# Altium footprint library Hello.PcbLib: 234 footprints (part 9 of 15)
Each footprint in its own frame and in the unit in brackets; x right, y up, seen from the top. Pads: shape width x height; smd on the part's side, far side on the other; paste and mask are expansions set on the pad; w line width, h text height; cw(c..) or ccw(c..) is an arc to the next point about the centre after c.
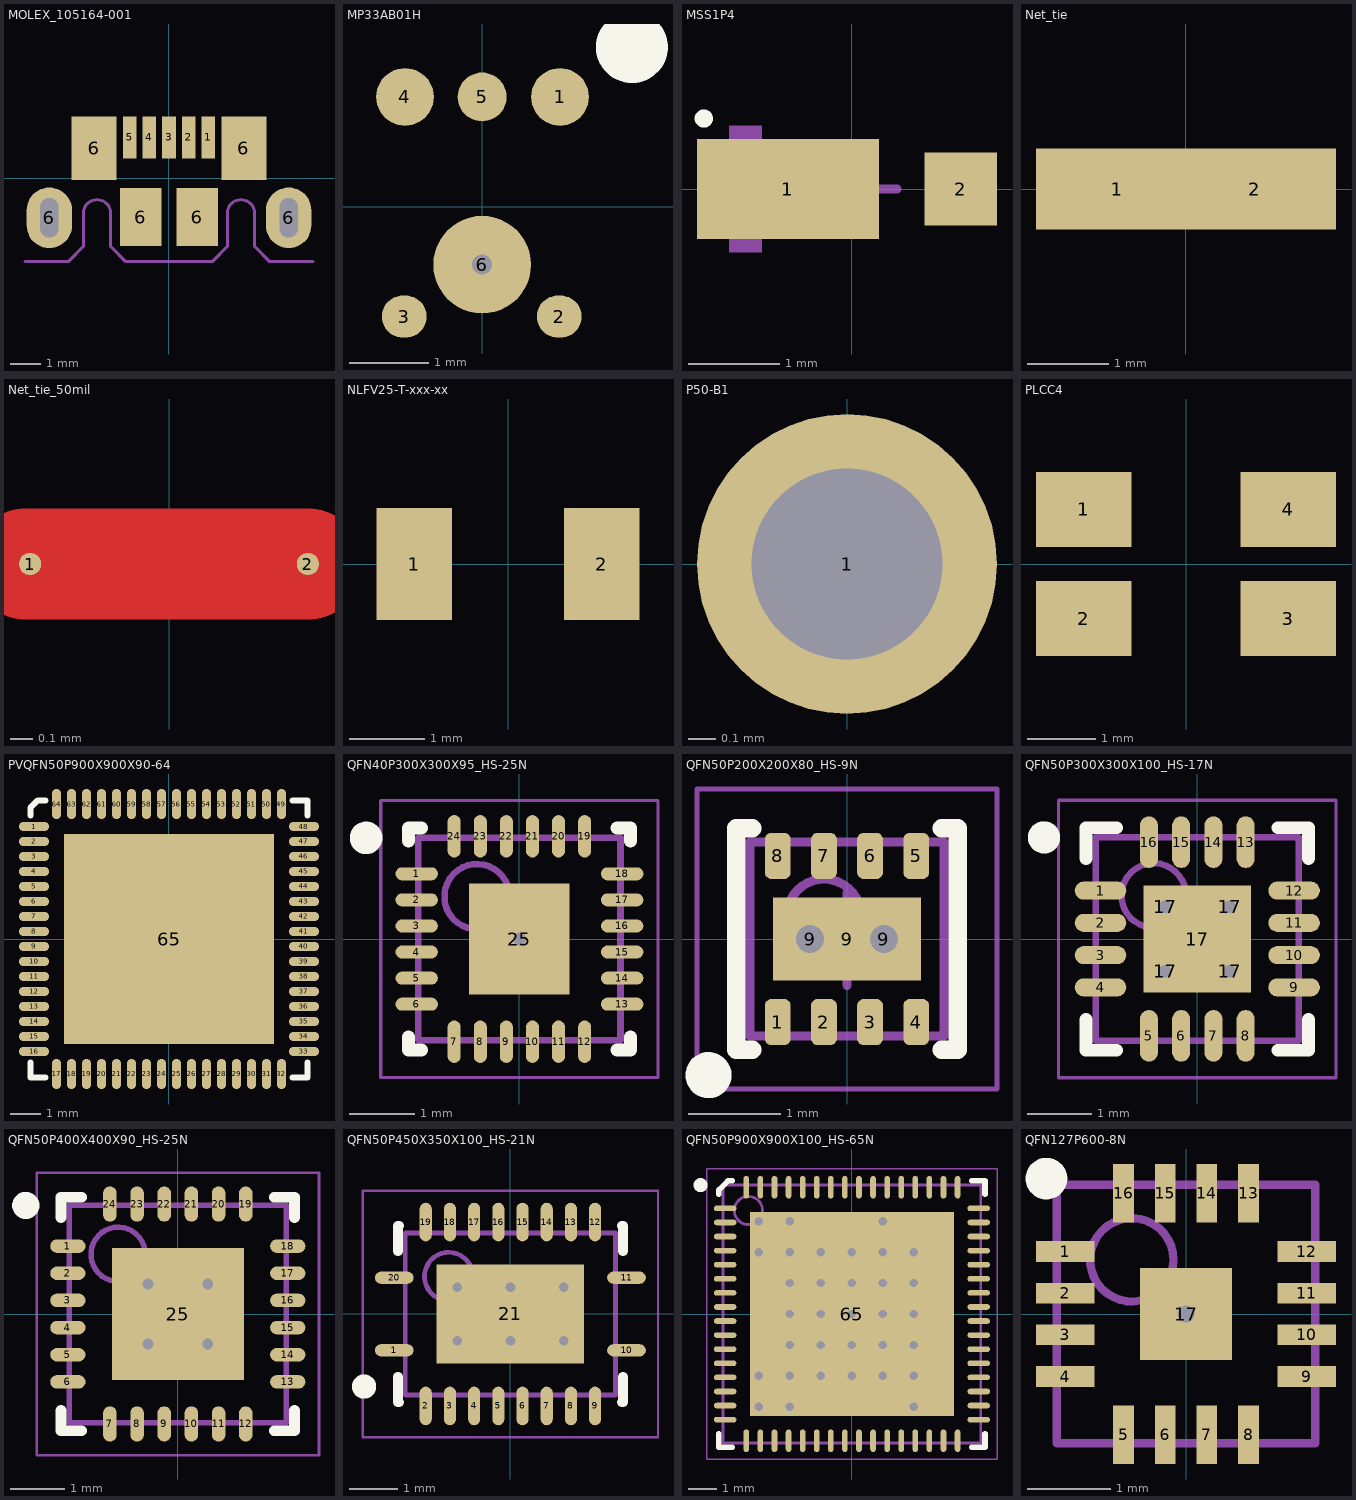
[diagram p8: the footprints below, top view; thin cyan lines are the x and y axes]

## MOLEX_105164-001 [mm] "Molex reverse flangless USB receptacle"
height 2.45
pads (11):
  rect 0.45x1.38 smd: 1(1.3,1.35) 2(0.65,1.35) 3(0,1.35) 4(-0.65,1.35) 5(-1.3,1.35)
  rrect100% 1.5x2 hole 0.6 slot 1.3 at 90 deg: 6(-3.95,-1.3) 6(3.95,-1.3)
  rect 1.475x2.1 smd: 6(-2.475,1) 6(2.475,1)
  rect 1.375x1.9 smd: 6(-0.937,-1.275) 6(0.938,-1.275)
Mechanical 1:
  lines w0.1: -4.75,-2.75 -3.325,-2.75 -2.825,-2.25 -2.825,-1.15 cw(c-2.375,-1.15) -2.375,-0.7 cw(c-2.375,-1.15) -1.925,-1.15 -1.925,-2.25 -1.425,-2.75 1.425,-2.75 1.925,-2.25 1.925,-1.15 cw(c2.375,-1.15) 2.375,-0.7 cw(c2.375,-1.15) 2.825,-1.15 2.825,-2.25 3.325,-2.75 4.75,-2.75
3D body: height 2.45, standoff -0.8, extent -4.1,-3.45 4.1,1.7

## MP33AB01H [mm] "ST analog micrphone"
pads (6):
  round 0.723 smd: 1(0.975,1.375) 4(-0.966,1.375)
  oval 0.562x0.526 smd: 2(0.966,-1.375) 3(-0.975,-1.375)
  round 0.612 smd: 5(0,1.375)
  round 1.224 smd: 6(0,-0.725)
via 0,-0.725 diameter 0.25 hole 0.25
Top Overlay:
  circle w0.7: c1.875,2 r0.1
3D body: height 1, standoff 0, extent -1.5,-1.9 1.5,1.9

## MSS1P4 [mm] "Schottky Diode"
height 0.73
pads (2):
  rect 2x1.1 smd: 1(-0.7,0)
  rect 0.8x0.8 smd: 2(1.2,0)
Top Overlay:
  circle w0.1: c-1.625,0.775 r0.05
Mechanical 13:
  rectangle: -1.35,-0.7 -0.987,0.7
Mechanical 15:
  lines w0.1: -0.5,0 0.5,0 ; 0,-0.5 0,0.5
3D body: height 0.73, standoff 0, extent -1.35,-0.7 1.35,0.7

## Net_tie [mm] "short circuit to tie 2 nets"
pads (2):
  rect 2x1 smd paste-1 mask+0.102: 1(-0.85,0) 2(0.85,0)

## Net_tie_50mil [mm] "Trace to bridge 2 hoels in a 50 mil pitch connector"
pads (2):
  round 0.1 smd paste-1 mask-1: 1(-0.625,0) 2(0.625,0)
Top Layer:
  lines w0.5: -0.645,0 0.625,0

## NLFV25-T-xxx-xx [mm] "TDK SMD shielded power inductor"
height 1.8
pads (2):
  rect 1x1.5 smd: 1(-1.25,0) 2(1.25,0)
3D body: height 1.8, standoff 0, extent -1.25,-1 1.25,1

## P50-B1 [mm] "P50-B1 Test Point 0.68x16.55mm 2.6mm stroke"
height 16.55
pads (1):
  round 1.1 hole 0.7: 1(0,0)
3D body: height 16.55, standoff 0, extent -0.337,-0.339 0.34,0.34

## PLCC4 [mm] "Gull-wing footprint for RGB LEDs like CLVBA-FKA"
height 1.9
pads (4):
  rect 1.4x1.1 smd: 1(-1.5,0.8) 2(-1.5,-0.8) 3(1.5,-0.8) 4(1.5,0.8)
3D body: height 1.9, standoff 0.25, extent -1.95,-1.15 1.95,1.2

## PVQFN50P900X900X90-64 [mm] "PVQFN, 64-Leads, Body 9.0x9.0mm (max), Pitch 0.50mm, IPC Low Density"
height 0.9
pads (65):
  oval 1x0.3 smd paste-0.05: 1(-4.5,3.75) 2(-4.5,3.25) 3(-4.5,2.75) 4(-4.5,2.25) 5(-4.5,1.75) 6(-4.5,1.25) 7(-4.5,0.75) 8(-4.5,0.25) 9(-4.5,-0.25) 10(-4.5,-0.75) 11(-4.5,-1.25) 12(-4.5,-1.75) 13(-4.5,-2.25) 14(-4.5,-2.75) 15(-4.5,-3.25) 16(-4.5,-3.75) 33(4.5,-3.75) 34(4.5,-3.25) 35(4.5,-2.75) 36(4.5,-2.25) 37(4.5,-1.75) 38(4.5,-1.25) 39(4.5,-0.75) 40(4.5,-0.25) 41(4.5,0.25) 42(4.5,0.75) 43(4.5,1.25) 44(4.5,1.75) 45(4.5,2.25) 46(4.5,2.75) 47(4.5,3.25) 48(4.5,3.75)
  oval 0.3x1 smd paste-0.05: 17(-3.75,-4.5) 18(-3.25,-4.5) 19(-2.75,-4.5) 20(-2.25,-4.5) 21(-1.75,-4.5) 22(-1.25,-4.5) 23(-0.75,-4.5) 24(-0.25,-4.5) 25(0.25,-4.5) 26(0.75,-4.5) 27(1.25,-4.5) 28(1.75,-4.5) 29(2.25,-4.5) 30(2.75,-4.5) 31(3.25,-4.5) 32(3.75,-4.5) 49(3.75,4.5) 50(3.25,4.5) 51(2.75,4.5) 52(2.25,4.5) 53(1.75,4.5) 54(1.25,4.5) 55(0.75,4.5) 56(0.25,4.5) 57(-0.25,4.5) 58(-0.75,4.5) 59(-1.25,4.5) 60(-1.75,4.5) 61(-2.25,4.5) 62(-2.75,4.5) 63(-3.25,4.5) 64(-3.75,4.5)
  rect 7x7 smd paste-5: 65(0,0)
Top Overlay:
  lines w0.2: -4.625,-4.125 -4.625,-4.625 -4.125,-4.625 ; -4.625,4.125 -4.625,4.375 -4.375,4.625 -4.125,4.625 ; 4.125,-4.625 4.625,-4.625 4.625,-4.125 ; 4.125,4.625 4.625,4.625 4.625,4.125
Top Paste:
  rectangle: -3,-3 -0.5,-0.5
  rectangle: 0.5,-3 3,-0.5
  rectangle: 0.5,0.5 3,3
  rectangle: -3,0.5 -0.5,3
3D body: height 0.9, standoff 0.05, extent -4.525,-4.525 4.525,4.525

## QFN40P300X300X95_HS-25N [mm] "QFN, 24-Leads, Body 3.00x3.00mm, Pitch 0.40mm, Thermal Pad 1.54x1.70mm, IPC Medium Density"
height 0.95
pads (25):
  oval 0.65x0.2 smd: 1(-1.575,1) 2(-1.575,0.6) 3(-1.575,0.2) 4(-1.575,-0.2) 5(-1.575,-0.6) 6(-1.575,-1) 13(1.575,-1) 14(1.575,-0.6) 15(1.575,-0.2) 16(1.575,0.2) 17(1.575,0.6) 18(1.575,1)
  oval 0.2x0.65 smd: 7(-1,-1.575) 8(-0.6,-1.575) 9(-0.2,-1.575) 10(0.2,-1.575) 11(0.6,-1.575) 12(1,-1.575) 19(1,1.575) 20(0.6,1.575) 21(0.2,1.575) 22(-0.2,1.575) 23(-0.6,1.575) 24(-1,1.575)
  rect 1.54x1.7 smd: 25(0,0)
via 0,0 diameter 0.5 hole 0.2
Top Overlay:
  circle w0.25: c-2.35,1.55 r0.125
  lines w0.2: -1.7,-1.5 -1.7,-1.7 -1.5,-1.7 ; -1.7,1.5 -1.7,1.7 -1.5,1.7 ; 1.5,-1.7 1.7,-1.7 1.7,-1.5 ; 1.5,1.7 1.7,1.7 1.7,1.5
Mechanical 13:
  circle w0.1: c-0.65,0.65 r0.5
  lines w0.1: -1.55,-1.55 1.55,-1.55 1.55,1.55 -1.55,1.55 -1.55,-1.55
Mechanical 15:
  lines w0.05: -2.125,-2.125 2.125,-2.125 2.125,2.125 -2.125,2.125 -2.125,-2.125
  lines w0.1: -0.5,0 0.5,0 ; 0,-0.5 0,0.5
3D body: height 0.95, standoff 0, extent -1.55,-1.55 1.55,1.55

## QFN50P200X200X80_HS-9N [mm] "QFN, 8-Leads, Body 2.00x2.00mm, Pitch 0.50mm, Thermal Pad 1.60x0.90mm, IPC Medium Density"
height 0.8
pads (11):
  rrect50% 0.28x0.5 smd: 1(-0.75,-0.9) 2(-0.25,-0.9) 3(0.25,-0.9) 4(0.75,-0.9) 5(0.75,0.9) 6(0.25,0.9) 7(-0.25,0.9) 8(-0.75,0.9)
  round 0.6 hole 0.3: 9(-0.4,0) 9(0.4,0)
  rect 1.6x0.9 smd: 9(0,0)
Top Overlay:
  circle w0.25: c-1.5,-1.475 r0.125
  lines w0.2: -1.025,-1.2 -1.2,-1.2 -1.2,1.2 -1.025,1.2 ; 1.025,-1.2 1.2,-1.2 1.2,1.2 1.025,1.2
Mechanical 13:
  circle w0.1: c-0.25,0.25 r0.4
  lines w0.1: -1.05,-1.05 -1.05,1.05 1.05,1.05 1.05,-1.05 -1.05,-1.05
Mechanical 15:
  lines w0.05: -1.625,-1.625 -1.625,1.625 1.625,1.625 1.625,-1.625 -1.625,-1.625
  lines w0.1: -0.5,0 0.5,0 ; 0,-0.5 0,0.5
3D body: height 0.8, standoff 0, extent -1.05,-1.05 1.05,1.05

## QFN50P300X300X100_HS-17N [mm] "QFN, 16-Leads, Body 3.00x3.00mm, Pitch 0.50mm, Thermal Pad 1.66x1.66mm, IPC Medium Density"
height 1
pads (21):
  oval 0.8x0.28 smd: 1(-1.5,0.75) 2(-1.5,0.25) 3(-1.5,-0.25) 4(-1.5,-0.75) 9(1.5,-0.75) 10(1.5,-0.25) 11(1.5,0.25) 12(1.5,0.75)
  oval 0.28x0.8 smd: 5(-0.75,-1.5) 6(-0.25,-1.5) 7(0.25,-1.5) 8(0.75,-1.5) 13(0.75,1.5) 14(0.25,1.5) 15(-0.25,1.5) 16(-0.75,1.5)
  round 0.5 hole 0.2: 17(-0.5,0.5) 17(-0.5,-0.5) 17(0.5,0.5) 17(0.5,-0.5)
  rect 1.66x1.66 smd paste-5: 17(0,0)
Top Overlay:
  circle w0.25: c-2.375,1.575 r0.125
  lines w0.2: -1.725,-1.25 -1.725,-1.725 -1.25,-1.725 ; -1.725,1.25 -1.725,1.725 -1.25,1.725 ; 1.25,-1.725 1.725,-1.725 1.725,-1.25 ; 1.25,1.725 1.725,1.725 1.725,1.25
Top Paste:
  region: 0.725,-0.725 0.725,-0.1 0.1,-0.1 0.1,-0.725
  region: 0.725,0.725 0.725,0.1 0.1,0.1 0.1,0.725
  region: -0.725,0.725 -0.725,0.1 -0.1,0.1 -0.1,0.725
  region: -0.725,-0.725 -0.725,-0.1 -0.1,-0.1 -0.1,-0.725
Mechanical 13:
  circle w0.1: c-0.675,0.675 r0.5
  lines w0.1: -1.575,-1.575 -1.575,1.575 1.575,1.575 1.575,-1.575 -1.575,-1.575
Mechanical 15:
  lines w0.05: -2.15,-2.15 -2.15,2.15 2.15,2.15 2.15,-2.15 -2.15,-2.15
  lines w0.1: -0.5,0 0.5,0 ; 0,-0.5 0,0.5
3D body: height 1, standoff 0, extent -1.575,-1.575 1.575,1.575

## QFN50P400X400X90_HS-25N [mm] "QFN, 24-Leads, Body 4.00x4.00mm, Pitch 0.50mm, Thermal Pad 2.43x2.43mm, IPC Medium Density"
height 0.9
pads (25):
  oval 0.65x0.25 smd: 1(-2.025,1.25) 2(-2.025,0.75) 3(-2.025,0.25) 4(-2.025,-0.25) 5(-2.025,-0.75) 6(-2.025,-1.25) 13(2.025,-1.25) 14(2.025,-0.75) 15(2.025,-0.25) 16(2.025,0.25) 17(2.025,0.75) 18(2.025,1.25)
  oval 0.25x0.65 smd: 7(-1.25,-2.025) 8(-0.75,-2.025) 9(-0.25,-2.025) 10(0.25,-2.025) 11(0.75,-2.025) 12(1.25,-2.025) 19(1.25,2.025) 20(0.75,2.025) 21(0.25,2.025) 22(-0.25,2.025) 23(-0.75,2.025) 24(-1.25,2.025)
  rect 2.43x2.43 smd: 25(0,0)
via -0.55,0.55 diameter 0.5 hole 0.2
via 0.55,0.55 diameter 0.5 hole 0.2
via -0.55,-0.55 diameter 0.5 hole 0.2
via 0.55,-0.55 diameter 0.5 hole 0.2
Top Overlay:
  circle w0.25: c-2.8,2 r0.125
  lines w0.2: -2.15,-1.775 -2.15,-2.15 -1.775,-2.15 ; -2.15,1.775 -2.15,2.15 -1.775,2.15 ; 1.775,-2.15 2.15,-2.15 2.15,-1.775 ; 1.775,2.15 2.15,2.15 2.15,1.775
Mechanical 13:
  circle w0.1: c-1.1,1.1 r0.5
  lines w0.1: -2,-2 -2,2 2,2 2,-2 -2,-2
Mechanical 15:
  lines w0.05: -2.6,-2.6 -2.6,2.6 2.6,2.6 2.6,-2.6 -2.6,-2.6
  lines w0.1: -0.5,0 0.5,0 ; 0,-0.5 0,0.5
3D body: height 0.9, standoff 0, extent -2,-2 2,2

## QFN50P450X350X100_HS-21N [mm] "QFN, 20-Leads, Body 4.50x3.50mm, Pitch 0.50mm/1.50mm, Thermal Pad 3.05x2.05mm, IPC Medium Density"
height 1
pads (21):
  oval 0.8x0.25 smd: 1(-2.4,-0.75) 10(2.4,-0.75) 11(2.4,0.75) 20(-2.4,0.75)
  oval 0.25x0.8 smd: 2(-1.75,-1.9) 3(-1.25,-1.9) 4(-0.75,-1.9) 5(-0.25,-1.9) 6(0.25,-1.9) 7(0.75,-1.9) 8(1.25,-1.9) 9(1.75,-1.9) 12(1.75,1.9) 13(1.25,1.9) 14(0.75,1.9) 15(0.25,1.9) 16(-0.25,1.9) 17(-0.75,1.9) 18(-1.25,1.9) 19(-1.75,1.9)
  rect 3.05x2.05 smd: 21(0,0)
via -1.1,-0.55 diameter 0.5 hole 0.2
via 1.1,-0.55 diameter 0.5 hole 0.2
via 1.1,0.55 diameter 0.5 hole 0.2
via 0,-0.55 diameter 0.5 hole 0.2
via 0,0.55 diameter 0.5 hole 0.2
via -1.1,0.55 diameter 0.5 hole 0.2
Top Overlay:
  circle w0.25: c-3.025,-1.5 r0.125
  lines w0.2: -2.325,-1.3 -2.325,-1.825 -2.3,-1.825 ; -2.325,1.3 -2.325,1.825 -2.3,1.825 ; 2.3,-1.825 2.325,-1.825 2.325,-1.3 ; 2.3,1.825 2.325,1.825 2.325,1.3
Mechanical 13:
  circle w0.1: c-1.275,0.775 r0.5
  lines w0.1: -2.175,-1.675 -2.175,1.675 2.175,1.675 2.175,-1.675 -2.175,-1.675
Mechanical 15:
  lines w0.05: -3.05,-2.55 -3.05,2.55 3.05,2.55 3.05,-2.55 -3.05,-2.55
  lines w0.1: -0.5,0 0.5,0 ; 0,-0.5 0,0.5
3D body: height 1, standoff 0, extent -2.175,-1.675 2.175,1.675

## QFN50P900X900X100_HS-65N [mm] "QFN, 64-Leads, Body 9.00x9.00mm, Pitch 0.50mm, Thermal Pad 7.25x7.25mm, IPC Medium Density"
height 1
pads (65):
  oval 0.8x0.2 smd: 1(-4.5,3.75) 2(-4.5,3.25) 3(-4.5,2.75) 4(-4.5,2.25) 5(-4.5,1.75) 6(-4.5,1.25) 7(-4.5,0.75) 8(-4.5,0.25) 9(-4.5,-0.25) 10(-4.5,-0.75) 11(-4.5,-1.25) 12(-4.5,-1.75) 13(-4.5,-2.25) 14(-4.5,-2.75) 15(-4.5,-3.25) 16(-4.5,-3.75) 33(4.5,-3.75) 34(4.5,-3.25) 35(4.5,-2.75) 36(4.5,-2.25) 37(4.5,-1.75) 38(4.5,-1.25) 39(4.5,-0.75) 40(4.5,-0.25) 41(4.5,0.25) 42(4.5,0.75) 43(4.5,1.25) 44(4.5,1.75) 45(4.5,2.25) 46(4.5,2.75) 47(4.5,3.25) 48(4.5,3.75)
  oval 0.2x0.8 smd: 17(-3.75,-4.5) 18(-3.25,-4.5) 19(-2.75,-4.5) 20(-2.25,-4.5) 21(-1.75,-4.5) 22(-1.25,-4.5) 23(-0.75,-4.5) 24(-0.25,-4.5) 25(0.25,-4.5) 26(0.75,-4.5) 27(1.25,-4.5) 28(1.75,-4.5) 29(2.25,-4.5) 30(2.75,-4.5) 31(3.25,-4.5) 32(3.75,-4.5) 49(3.75,4.5) 50(3.25,4.5) 51(2.75,4.5) 52(2.25,4.5) 53(1.75,4.5) 54(1.25,4.5) 55(0.75,4.5) 56(0.25,4.5) 57(-0.25,4.5) 58(-0.75,4.5) 59(-1.25,4.5) 60(-1.75,4.5) 61(-2.25,4.5) 62(-2.75,4.5) 63(-3.25,4.5) 64(-3.75,4.5)
  rect 7.25x7.25 smd paste-10: 65(0,0)
via 1.1,3.3 diameter 0.6 hole 0.3
via 2.2,-3.3 diameter 0.6 hole 0.3
via -2.2,-3.3 diameter 0.6 hole 0.3
via -3.3,-3.3 diameter 0.6 hole 0.3
via 2.2,-2.2 diameter 0.6 hole 0.3
via 1.1,-2.2 diameter 0.6 hole 0.3
via 0,-2.2 diameter 0.6 hole 0.3
via -1.1,-2.2 diameter 0.6 hole 0.3
via -2.2,-2.2 diameter 0.6 hole 0.3
via -3.3,-2.2 diameter 0.6 hole 0.3
via 2.2,-1.1 diameter 0.6 hole 0.3
via 1.1,-1.1 diameter 0.6 hole 0.3
via 0,-1.1 diameter 0.6 hole 0.3
via -1.1,-1.1 diameter 0.6 hole 0.3
via -2.2,-1.1 diameter 0.6 hole 0.3
via 2.2,0 diameter 0.6 hole 0.3
via 1.1,0 diameter 0.6 hole 0.3
via 0,0 diameter 0.6 hole 0.3
via -1.1,0 diameter 0.6 hole 0.3
via -2.2,0 diameter 0.6 hole 0.3
via 2.2,1.1 diameter 0.6 hole 0.3
via 1.1,1.1 diameter 0.6 hole 0.3
via 0,1.1 diameter 0.6 hole 0.3
via -1.1,1.1 diameter 0.6 hole 0.3
via -2.2,1.1 diameter 0.6 hole 0.3
via 2.2,2.2 diameter 0.6 hole 0.3
via 1.1,2.2 diameter 0.6 hole 0.3
via 0,2.2 diameter 0.6 hole 0.3
via -1.1,2.2 diameter 0.6 hole 0.3
via -2.2,2.2 diameter 0.6 hole 0.3
via -3.3,2.2 diameter 0.6 hole 0.3
via -2.2,3.3 diameter 0.6 hole 0.3
via -3.3,3.3 diameter 0.6 hole 0.3
Top Overlay:
  circle w0.25: c-5.375,4.575 r0.125
  lines w0.2: -4.725,-4.25 -4.725,-4.725 -4.25,-4.725 ; -4.725,4.25 -4.725,4.4 -4.4,4.725 -4.25,4.725 ; 4.25,-4.725 4.725,-4.725 4.725,-4.25 ; 4.25,4.725 4.725,4.725 4.725,4.25
Top Paste:
  region: 0.15,0.15 0.15,1.65 1.65,1.65 1.65,0.15
  region: 0.15,-0.15 0.15,-1.65 1.65,-1.65 1.65,-0.15
  region: 1.95,-0.15 1.95,-1.65 3.45,-1.65 3.45,-0.15
  region: 1.95,0.15 1.95,1.65 3.45,1.65 3.45,0.15
  region: 1.95,-1.95 1.95,-3.45 3.45,-3.45 3.45,-1.95
  region: 0.15,-1.95 0.15,-3.45 1.65,-3.45 1.65,-1.95
  region: 0.15,1.95 0.15,3.45 1.65,3.45 1.65,1.95
  region: 1.95,1.95 1.95,3.45 3.45,3.45 3.45,1.95
  region: -1.95,-1.95 -1.95,-3.45 -3.45,-3.45 -3.45,-1.95
  region: -0.15,-1.95 -0.15,-3.45 -1.65,-3.45 -1.65,-1.95
  region: -0.15,1.95 -0.15,3.45 -1.65,3.45 -1.65,1.95
  region: -1.95,1.95 -1.95,3.45 -3.45,3.45 -3.45,1.95
  region: -1.95,-0.15 -1.95,-1.65 -3.45,-1.65 -3.45,-0.15
  region: -1.95,0.15 -1.95,1.65 -3.45,1.65 -3.45,0.15
  region: -0.15,0.15 -0.15,1.65 -1.65,1.65 -1.65,0.15
  region: -0.15,-0.15 -0.15,-1.65 -1.65,-1.65 -1.65,-0.15
Mechanical 13:
  circle w0.1: c-3.675,3.675 r0.5
  lines w0.1: -4.575,-4.575 4.575,-4.575 4.575,4.575 -4.575,4.575 -4.575,-4.575
Mechanical 15:
  lines w0.05: -5.15,-5.15 5.15,-5.15 5.15,5.15 -5.15,5.15 -5.15,-5.15
  lines w0.1: -0.5,0 0.5,0 ; 0,-0.5 0,0.5
3D body: height 1, standoff 0, extent -4.575,-4.575 4.575,4.575

## QFN127P600-8N [mm] "Maxim 16-TQFN T1633+4"
height 0.8
pads (17):
  rect 0.7x0.25 smd: 1(-1.45,0.75) 2(-1.45,0.25) 3(-1.45,-0.25) 4(-1.45,-0.75) 9(1.45,-0.75) 10(1.45,-0.25) 11(1.45,0.25) 12(1.45,0.75)
  rect 0.25x0.7 smd: 5(-0.75,-1.45) 6(-0.25,-1.45) 7(0.25,-1.45) 8(0.75,-1.45) 13(0.75,1.45) 14(0.25,1.45) 15(-0.25,1.45) 16(-0.75,1.45)
  rect 1.1x1.1 smd: 17(0,0)
via 0,0 diameter 0.5 hole 0.2
Top Overlay:
  circle w0.25: c-1.675,1.625 r0.125
Mechanical 13:
  circle w0.1: c-0.65,0.65 r0.5
  lines w0.1: -1.55,-1.55 -1.55,1.55 1.55,1.55 1.55,-1.55 -1.55,-1.55
3D body: height 0.8, standoff 0, extent -1.55,-1.55 1.55,1.55